# Altium footprint library mirco2440-4l.PcbLib: 22 footprints (part 1 of 2)
Each footprint in its own frame and in the unit in brackets; x right, y up, seen from the top. Pads: shape width x height; smd on the part's side, far side on the other; paste and mask are expansions set on the pad; w line width, h text height; cw(c..) or ccw(c..) is an arc to the next point about the centre after c.
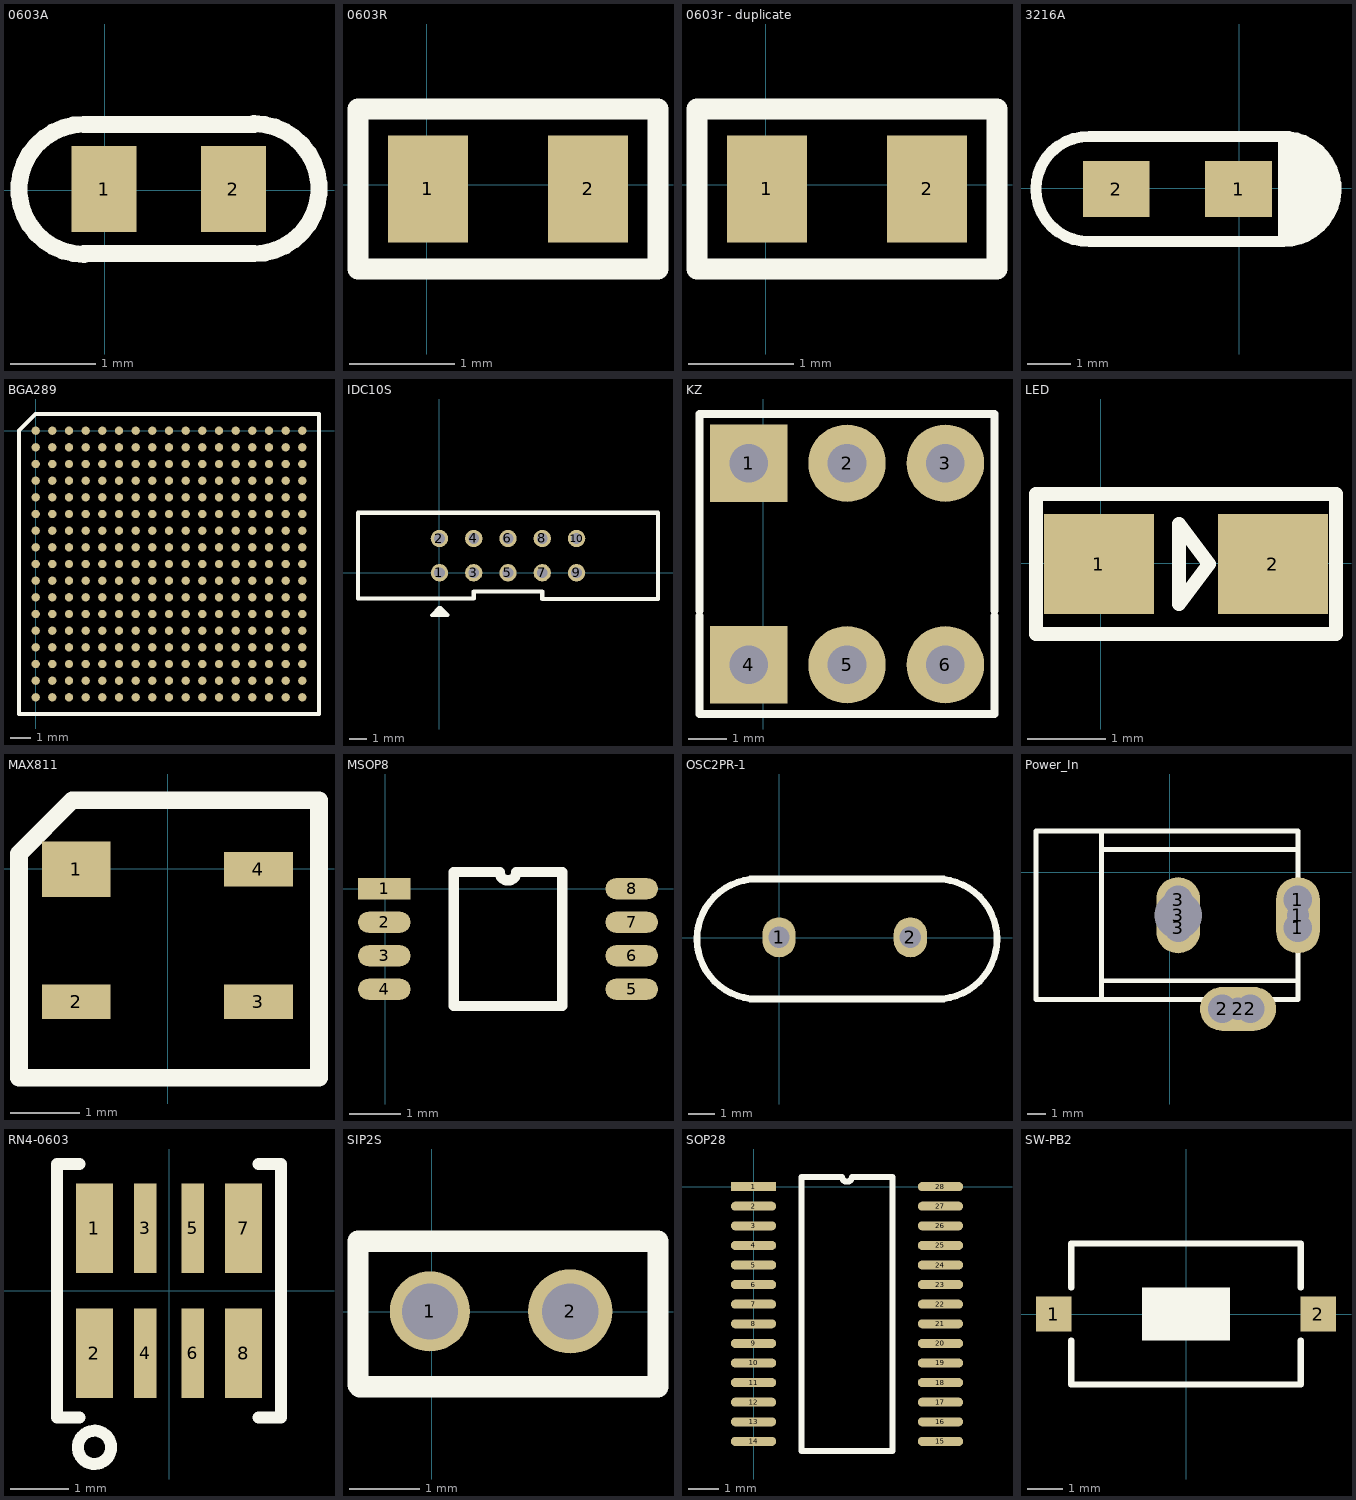
[diagram p0: the footprints below, top view; thin cyan lines are the x and y axes]

## 0603A [mil]
pads (2):
  rect 30x40 smd: 1(-0.39,0.65) 2(59.61,0.65)
Top Overlay:
  lines w7.87: -9.64,-29.63 cw(c-9.64,0.51) -9.64,30.65 69.1,30.65 ; -9.64,-29.35 69.1,-29.35 ccw(c69.1,0.8) 69.1,30.94

## 0603R [mil]
pads (2):
  rect 30x40 smd: 1(0.5,-1.59) 2(60.5,-1.59)
Top Overlay:
  lines w7.87: 86.64,-31.63 86.64,28.41 -25.65,28.41 -25.65,-31.59 86.64,-31.59

## 0603r - duplicate [mil]
pads (2):
  rect 30x40 smd: 1(0.5,-1.59) 2(60.5,-1.59)
Top Overlay:
  lines w7.87: 86.64,-31.63 86.64,28.41 -25.65,28.41 -25.65,-31.59 86.64,-31.59

## 3216A [mil]
pads (2):
  rect 60x50 smd: 1(-0.8,-0.83) 2(-110.8,-0.83)
Top Overlay:
  rectangle: 41.38,-41.27 65,42.39
  rectangle: 68.1,-10.66 84.83,15.91
  rectangle: 65.15,-32.32 80.9,29.69
  rectangle: 56.14,-37.33 69.92,37.48
  rectangle: 44.48,-44.13 61.21,40.52
  lines w10: -134.66,-48.07 39.55,-48.07 ; -134.67,46.42 38.57,46.42 ; -134.62,-48.07 cw(c-135.64,-0.83) -134.62,46.42 ; 37.31,46.37 cw(c39.55,-0.83) 39.55,-48.07 ; 39.55,44.46 39.55,-48.07

## BGA289 [mm]
pads (289):
  round 0.4 smd: A1(-0.003,0.009) A2(0.797,0.009) A3(1.597,0.009) A4(2.397,0.009) A5(3.197,0.009) A6(3.997,0.009) A7(4.797,0.009) A8(5.597,0.009) A9(6.397,0.009) A10(7.197,0.009) A11(7.997,0.009) A12(8.797,0.009) A13(9.597,0.009) A14(10.397,0.009) A15(11.197,0.009) A16(11.997,0.009) A17(12.797,0.009) B1(-0.003,-0.791) B2(0.797,-0.791) B3(1.597,-0.791) B4(2.397,-0.791) B5(3.197,-0.791) B6(3.997,-0.791) B7(4.797,-0.791) B8(5.597,-0.791) B9(6.397,-0.791) B10(7.197,-0.791) B11(7.997,-0.791) B12(8.797,-0.791) B13(9.597,-0.791) B14(10.397,-0.791) B15(11.197,-0.791) B16(11.997,-0.791) B17(12.797,-0.791) C1(-0.003,-1.591) C2(0.797,-1.591) C3(1.597,-1.591) C4(2.397,-1.591) C5(3.197,-1.591) C6(3.997,-1.591) C7(4.797,-1.591) C8(5.597,-1.591) C9(6.397,-1.591) C10(7.197,-1.591) C11(7.997,-1.591) C12(8.797,-1.591) C13(9.597,-1.591) C14(10.397,-1.591) C15(11.197,-1.591) C16(11.997,-1.591) C17(12.797,-1.591) D1(-0.003,-2.391) D2(0.797,-2.391) D3(1.597,-2.391) D4(2.397,-2.391) D5(3.197,-2.391) D6(3.997,-2.391) D7(4.797,-2.391) D8(5.597,-2.391) D9(6.397,-2.391) D10(7.197,-2.391) D11(7.997,-2.391) D12(8.797,-2.391) D13(9.597,-2.391) D14(10.397,-2.391) D15(11.197,-2.391) D16(11.997,-2.391) D17(12.797,-2.391) E1(-0.003,-3.191) E2(0.797,-3.191) E3(1.597,-3.191) E4(2.397,-3.191) E5(3.197,-3.191) E6(3.997,-3.191) E7(4.797,-3.191) E8(5.597,-3.191) E9(6.397,-3.191) E10(7.197,-3.191) E11(7.997,-3.191) E12(8.797,-3.191) E13(9.597,-3.191) E14(10.397,-3.191) E15(11.197,-3.191) E16(11.997,-3.191) E17(12.797,-3.191) F1(-0.003,-3.991) F2(0.797,-3.991) F3(1.597,-3.991) F4(2.397,-3.991) F5(3.197,-3.991) F6(3.997,-3.991) F7(4.797,-3.991) F8(5.597,-3.991) F9(6.397,-3.991) F10(7.197,-3.991) F11(7.997,-3.991) F12(8.797,-3.991) F13(9.597,-3.991) F14(10.397,-3.991) F15(11.197,-3.991) F16(11.997,-3.991) F17(12.797,-3.991) G1(-0.003,-4.791) G2(0.797,-4.791) G3(1.597,-4.791) G4(2.397,-4.791) G5(3.197,-4.791) G6(3.997,-4.791) G7(4.797,-4.791) G8(5.597,-4.791) G9(6.397,-4.791) G10(7.197,-4.791) G11(7.997,-4.791) G12(8.797,-4.791) G13(9.597,-4.791) G14(10.397,-4.791) G15(11.197,-4.791) G16(11.997,-4.791) G17(12.797,-4.791) H1(-0.003,-5.591) H2(0.797,-5.591) H3(1.597,-5.591) H4(2.397,-5.591) H5(3.197,-5.591) H6(3.997,-5.591) H7(4.797,-5.591) H8(5.597,-5.591) H9(6.397,-5.591) H10(7.197,-5.591) H11(7.997,-5.591) H12(8.797,-5.591) H13(9.597,-5.591) H14(10.397,-5.591) H15(11.197,-5.591) H16(11.997,-5.591) H17(12.797,-5.591) J1(-0.003,-6.391) J2(0.797,-6.391) J3(1.597,-6.391) J4(2.397,-6.391) J5(3.197,-6.391) J6(3.997,-6.391) J7(4.797,-6.391) J8(5.597,-6.391) J9(6.397,-6.391) J10(7.197,-6.391) J11(7.997,-6.391) J12(8.797,-6.391) J13(9.597,-6.391) J14(10.397,-6.391) J15(11.197,-6.391) J16(11.997,-6.391) J17(12.797,-6.391) K1(-0.003,-7.191) K2(0.797,-7.191) K3(1.597,-7.191) K4(2.397,-7.191) K5(3.197,-7.191) K6(3.997,-7.191) K7(4.797,-7.191) K8(5.597,-7.191) K9(6.397,-7.191) K10(7.197,-7.191) K11(7.997,-7.191) K12(8.797,-7.191) K13(9.597,-7.191) K14(10.397,-7.191) K15(11.197,-7.191) K16(11.997,-7.191) K17(12.797,-7.191) L1(-0.003,-7.991) L2(0.797,-7.991) L3(1.597,-7.991) L4(2.397,-7.991) L5(3.197,-7.991) L6(3.997,-7.991) L7(4.797,-7.991) L8(5.597,-7.991) L9(6.397,-7.991) L10(7.197,-7.991) L11(7.997,-7.991) L12(8.797,-7.991) L13(9.597,-7.991) L14(10.397,-7.991) L15(11.197,-7.991) L16(11.997,-7.991) L17(12.797,-7.991) M1(-0.003,-8.791) M2(0.797,-8.791) M3(1.597,-8.791) M4(2.397,-8.791) M5(3.197,-8.791) M6(3.997,-8.791) M7(4.797,-8.791) M8(5.597,-8.791) M9(6.397,-8.791) M10(7.197,-8.791) M11(7.997,-8.791) M12(8.797,-8.791) M13(9.597,-8.791) M14(10.397,-8.791) M15(11.197,-8.791) M16(11.997,-8.791) M17(12.797,-8.791) N1(-0.003,-9.591) N2(0.797,-9.591) N3(1.597,-9.591) N4(2.397,-9.591) N5(3.197,-9.591) N6(3.997,-9.591) N7(4.797,-9.591) N8(5.597,-9.591) N9(6.397,-9.591) N10(7.197,-9.591) N11(7.997,-9.591) N12(8.797,-9.591) N13(9.597,-9.591) N14(10.397,-9.591) N15(11.197,-9.591) N16(11.997,-9.591) N17(12.797,-9.591) P1(-0.003,-10.391) P2(0.797,-10.391) P3(1.597,-10.391) P4(2.397,-10.391) P5(3.197,-10.391) P6(3.997,-10.391) P7(4.797,-10.391) P8(5.597,-10.391) P9(6.397,-10.391) P10(7.197,-10.391) P11(7.997,-10.391) P12(8.797,-10.391) P13(9.597,-10.391) P14(10.397,-10.391) P15(11.197,-10.391) P16(11.997,-10.391) P17(12.797,-10.391) R1(-0.003,-11.191) R2(0.797,-11.191) R3(1.597,-11.191) R4(2.397,-11.191) R5(3.197,-11.191) R6(3.997,-11.191) R7(4.797,-11.191) R8(5.597,-11.191) R9(6.397,-11.191) R10(7.197,-11.191) R11(7.997,-11.191) R12(8.797,-11.191) R13(9.597,-11.191) R14(10.397,-11.191) R15(11.197,-11.191) R16(11.997,-11.191) R17(12.797,-11.191) T1(-0.003,-11.991) T2(0.797,-11.991) T3(1.597,-11.991) T4(2.397,-11.991) T5(3.197,-11.991) T6(3.997,-11.991) T7(4.797,-11.991) T8(5.597,-11.991) T9(6.397,-11.991) T10(7.197,-11.991) T11(7.997,-11.991) T12(8.797,-11.991) T13(9.597,-11.991) T14(10.397,-11.991) T15(11.197,-11.991) T16(11.997,-11.991) T17(12.797,-11.991) U1(-0.003,-12.791) U2(0.797,-12.791) U3(1.597,-12.791) U4(2.397,-12.791) U5(3.197,-12.791) U6(3.997,-12.791) U7(4.797,-12.791) U8(5.597,-12.791) U9(6.397,-12.791) U10(7.197,-12.791) U11(7.997,-12.791) U12(8.797,-12.791) U13(9.597,-12.791) U14(10.397,-12.791) U15(11.197,-12.791) U16(11.997,-12.791) U17(12.797,-12.791)
Top Overlay:
  lines w0.2: -0.803,-13.591 13.597,-13.591 13.597,0.809 -0.003,0.809 -0.803,0.009 -0.803,-13.591

## IDC10S [mil]
pads (10):
  round 40 hole 25: 1(-0.05,0.1) 2(-0.05,78.84) 3(78.69,0.1) 4(78.69,78.84) 5(157.43,0.1) 6(157.43,78.84) 7(236.17,0.1) 8(236.17,78.84) 9(314.91,0.1) 10(314.91,78.84)
Top Overlay:
  lines w7.87: 12.23,-89.93 -9.28,-89.93 -9.82,-89.39 4.12,-89.39 7.91,-85.61 7.91,-88.4 -1.03,-97.34 -1.03,-80.61 -0.05,-79.62 ; -0.05,-79.62 1.92,-79.62 19.64,-97.34 11.76,-97.34 -17.76,-97.34 -0.05,-79.62
  lines w10: 501.92,-59.94 236.17,-59.94 236.17,-43.04 78.69,-43.04 78.69,-58.95 -187.06,-58.95 -187.06,137.9 501.92,137.9 501.92,-58.95

## KZ [mm]
pads (6):
  rect 2x2 hole 1: 1(-0.381,-10.414) 4(-0.381,-15.621)
  round 2 hole 1: 2(2.159,-10.414) 3(4.699,-10.414) 5(2.159,-15.621) 6(4.699,-15.621)
Top Overlay:
  lines w0.2: -1.651,-14.351 -1.651,-16.891 5.969,-16.891 5.969,-14.351 ; -1.651,-14.224 -1.651,-11.684 -1.651,-9.144 5.969,-9.144 5.969,-11.684 5.969,-14.224

## LED [mm]
pads (2):
  rect 1.4x1.27 smd: 1(-0.025,-0.01) 2(2.185,-0.01)
Top Overlay:
  lines w0.178: 2.985,0.879 -0.825,0.879 -0.825,-0.01 -0.825,-0.899 2.985,-0.899 2.985,0.879 ; 2.985,0.879 2.986,0.879 ; 0.991,-0.518 1.372,-0.01 0.991,0.498 0.991,-0.518

## MAX811 [mm]
pads (4):
  rect 1x0.8 smd: 1(-1.327,-0.004)
  rect 1x0.5 smd: 2(-1.327,-1.924) 3(1.313,-1.924) 4(1.313,-0.004)
Top Overlay:
  lines w0.254: -2.157,-3.029 2.193,-3.029 2.193,0.996 -1.382,0.996 -2.157,0.221 -2.157,-3.029

## MSOP8 [mm]
pads (8):
  rect 1.02x0.41 smd: 1(-0.017,-0.002)
  oval 1.02x0.41 smd: 2(-0.017,-0.652) 3(-0.017,-1.302) 4(-0.017,-1.952) 5(4.783,-1.952) 6(4.783,-1.302) 7(4.783,-0.652) 8(4.783,-0.002)
Top Overlay:
  lines w0.2: 1.328,-2.277 3.438,-2.277 3.438,0.323 2.545,0.323 cw(c2.383,0.323) 2.22,0.323 1.328,0.323 1.328,-2.277

## OSC2PR-1 [mil]
pads (2):
  oval 50x60 hole 32: 1(-0.1,0.32) 2(196.9,0.32)
Top Overlay:
  lines w10: -43.1,-92.18 246.9,-92.18 ; -43.1,87.82 246.9,87.82 ; -33.1,-92.18 cw(c-33.1,-2.18) -33.1,87.82 ; 236.9,-92.18 ccw(c236.9,-2.18) 236.9,87.82

## Power_In [mil]
pads (9):
  rect 60x60 hole 60: 1(270,-116) 2(170,-287) 3(18,-57)
  oval 92x160 hole 47: 1(270,-90)
  rect 50x60 hole 60: 1(270,-57) 3(18,-116)
  rect 60x50 hole 60: 2(111,-287)
  oval 160x92 hole 47: 2(144,-287)
  oval 92x160 hole 100: 3(18,-90)
Top Overlay:
  lines w10: -143,-267 -143,87 ; -143,-228 270,-228 ; -143,48 270,48 ; -281,-267 -281,87 270,87 270,-267 -281,-267

## RN4-0603 [mil]
pads (8):
  rect 25x60 smd: 1(-50,42) 2(-50,-42) 7(50,42) 8(50,-42)
  rect 15x60 smd: 3(-16,42) 4(-16,-42) 5(16,42) 6(16,-42)
Top Overlay:
  circle w8: c-50,-105 r11.18
  lines w8: -60,-85 -75,-85 -75,85 -60,85 ; 60,-85 75,-85 75,85 60,85

## SIP2S [mm]
pads (2):
  round 1.143 hole 0.8: 1(-0.027,0.005)
  round 1.2 hole 0.8: 2(1.973,0.005)
Top Overlay:
  lines w0.305: -1.052,-1.045 -1.052,0.005 -1.052,1.005 3.225,1.005 3.225,-1.07 -1.027,-1.07 -1.052,-1.045

## SOP28 [mm]
pads (28):
  rect 1.5x0.3 smd: 1(0,0)
  oval 1.5x0.3 smd: 2(0,-0.65) 3(0,-1.3) 4(0,-1.95) 5(0,-2.6) 6(0,-3.25) 7(0,-3.9) 8(0,-4.55) 9(0,-5.2) 10(0,-5.85) 11(0,-6.5) 12(0,-7.15) 13(0,-7.8) 14(0,-8.45) 15(6.2,-8.45) 16(6.2,-7.8) 17(6.2,-7.15) 18(6.2,-6.5) 19(6.2,-5.85) 20(6.2,-5.2) 21(6.2,-4.55) 22(6.2,-3.9) 23(6.2,-3.25) 24(6.2,-2.6) 25(6.2,-1.95) 26(6.2,-1.3) 27(6.2,-0.65) 28(6.2,0)
Top Overlay:
  lines w0.2: 1.585,-8.775 4.615,-8.775 4.615,0.325 3.262,0.325 cw(c3.1,0.325) 2.937,0.325 1.585,0.325 1.585,-8.775

## SW-PB2 [mm]
pads (2):
  rect 1x1 smd: 1(-3.75,0) 2(3.75,0)
Top Overlay:
  rectangle: -1.25,-0.75 1.25,0.75
  lines w0.178: -3.25,-0.75 -3.25,-2 3.25,-2 3.25,-0.75 ; -3.25,0.75 -3.25,2 3.25,2 3.25,0.75